# Altium footprint library TQFP.PcbLib: 51 footprints (part 1 of 4)
Each footprint in its own frame and in the unit in brackets; x right, y up, seen from the top. Pads: shape width x height; smd on the part's side, far side on the other; paste and mask are expansions set on the pad; w line width, h text height; cw(c..) or ccw(c..) is an arc to the next point about the centre after c.
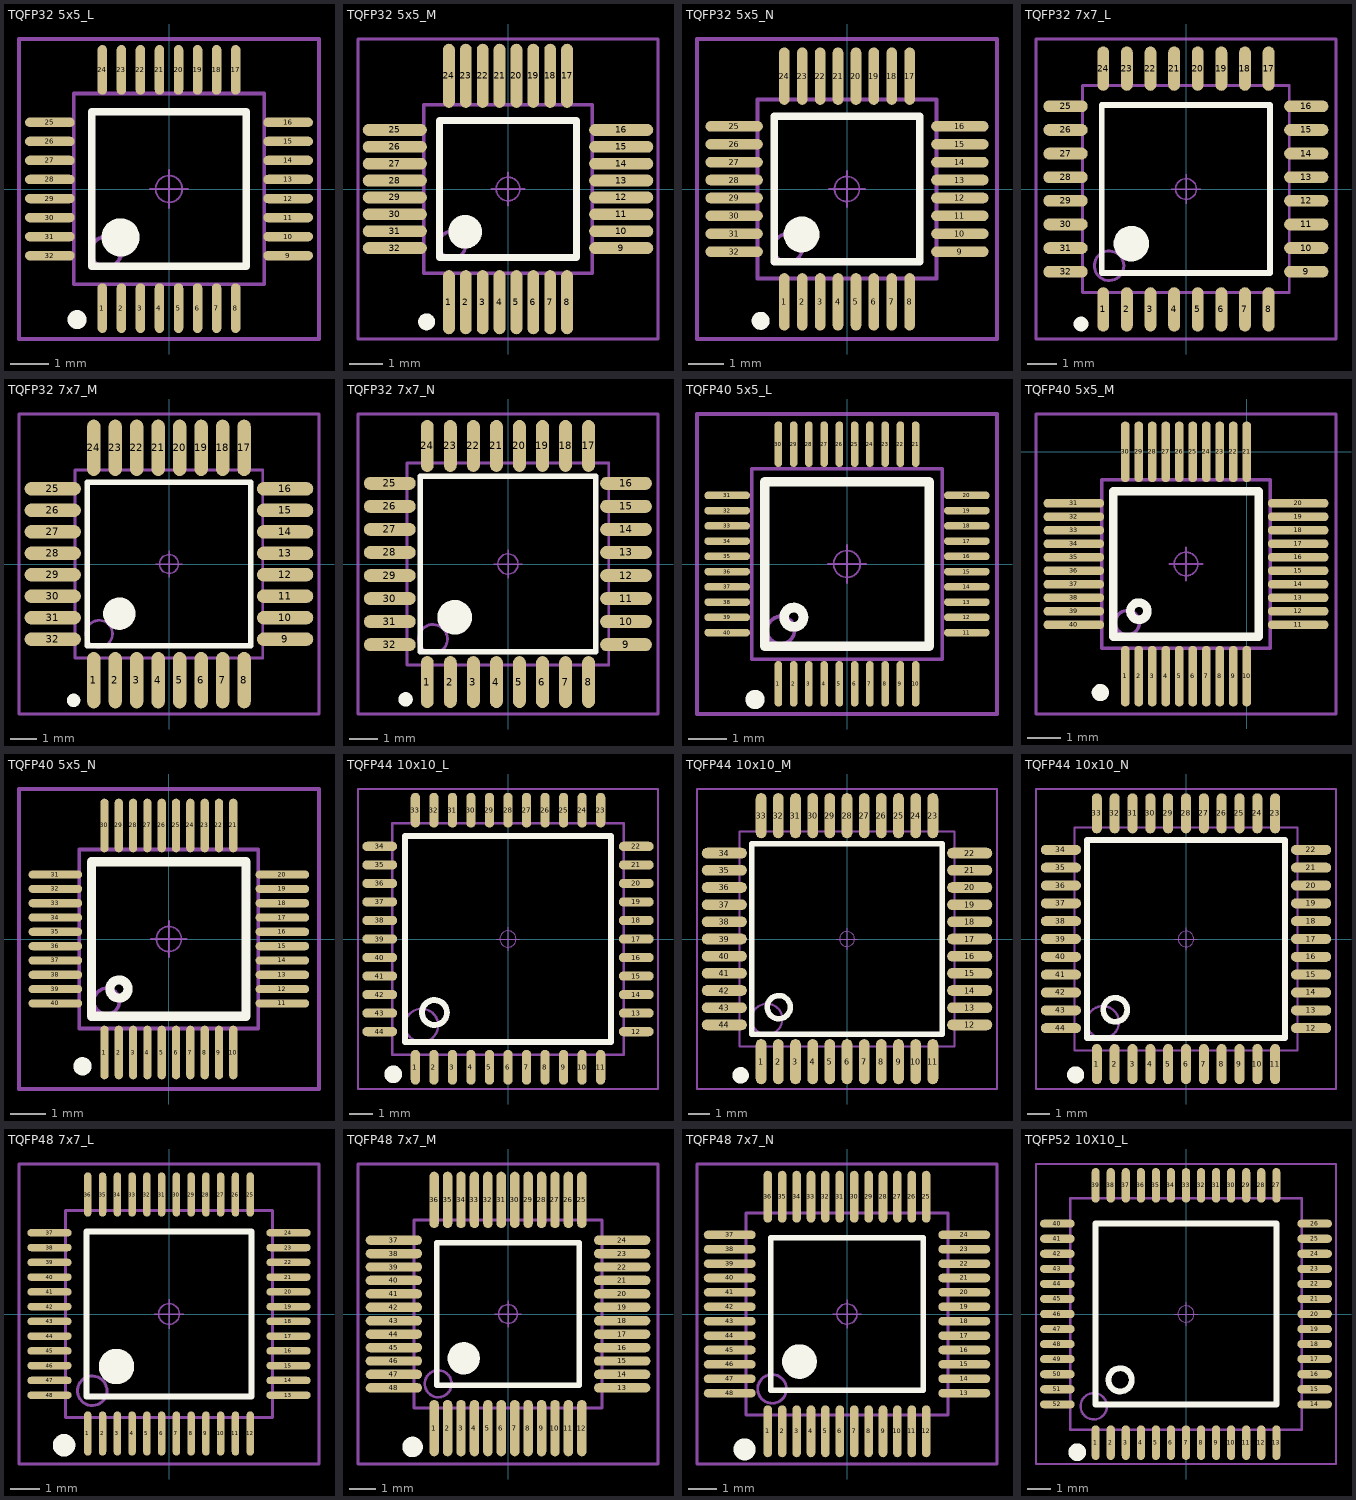
[diagram p0: the footprints below, top view; thin cyan lines are the x and y axes]

## TQFP32 5x5_L [mm] "32脚，体宽：5x5mm, 脚距：0.5mm"
height 1.2
pads (32):
  oval 0.25x1.3 smd: 1(-1.75,-3.127) 2(-1.25,-3.127) 3(-0.75,-3.127) 4(-0.25,-3.127) 5(0.25,-3.127) 6(0.75,-3.127) 7(1.25,-3.127) 8(1.75,-3.127) 17(1.75,3.127) 18(1.25,3.127) 19(0.75,3.127) 20(0.25,3.127) 21(-0.25,3.127) 22(-0.75,3.127) 23(-1.25,3.127) 24(-1.75,3.127)
  oval 1.3x0.25 smd: 9(3.127,-1.75) 10(3.127,-1.25) 11(3.127,-0.75) 12(3.127,-0.25) 13(3.127,0.25) 14(3.127,0.75) 15(3.127,1.25) 16(3.127,1.75) 25(-3.127,1.75) 26(-3.127,1.25) 27(-3.127,0.75) 28(-3.127,0.25) 29(-3.127,-0.25) 30(-3.127,-0.75) 31(-3.127,-1.25) 32(-3.127,-1.75)
Top Overlay:
  circle w0.6: c-1.27,-1.27 r0.2
  circle w0.25: c-2.413,-3.429 r0.125
  lines w0.2: -2.032,-2.032 -2.032,2.032 2.032,2.032 2.032,-2.032 -2.032,-2.032
Mechanical 13:
  circle w0.1: c-1.651,-1.651 r0.4
  lines w0.1: -2.5,-2.5 -2.5,2.503 2.5,2.503 2.5,-2.5 -2.5,-2.5
Mechanical 15:
  circle w0.05: c0,0 r0.35
  lines w0.05: -0.5,0 0.5,0 ; 0,-0.5 0,0.5
  lines w0.1: -3.937,-3.937 -3.937,3.937 3.937,3.937 3.937,-3.937 -3.937,-3.937
3D body: height 1.05, standoff 0, extent -3.502,-3.502 3.502,3.502

## TQFP32 5x5_M [mm] "32脚，体宽：5x5mm, 脚距：0.5mm"
height 1.2
pads (32):
  oval 0.35x1.9 smd: 1(-1.75,-3.356) 2(-1.25,-3.356) 3(-0.75,-3.356) 4(-0.25,-3.356) 5(0.25,-3.356) 6(0.75,-3.356) 7(1.25,-3.356) 8(1.75,-3.356) 17(1.75,3.356) 18(1.25,3.356) 19(0.75,3.356) 20(0.25,3.356) 21(-0.25,3.356) 22(-0.75,3.356) 23(-1.25,3.356) 24(-1.75,3.356)
  oval 1.9x0.35 smd: 9(3.356,-1.75) 10(3.356,-1.25) 11(3.356,-0.75) 12(3.356,-0.25) 13(3.356,0.25) 14(3.356,0.75) 15(3.356,1.25) 16(3.356,1.75) 25(-3.356,1.75) 26(-3.356,1.25) 27(-3.356,0.75) 28(-3.356,0.25) 29(-3.356,-0.25) 30(-3.356,-0.75) 31(-3.356,-1.25) 32(-3.356,-1.75)
Top Overlay:
  circle w0.25: c-2.413,-3.937 r0.125
  circle w0.6: c-1.27,-1.27 r0.2
  lines w0.2: -2.032,-2.032 2.032,-2.032 2.032,2.032 -2.032,2.032 -2.032,-2.032
Mechanical 13:
  circle w0.1: c-1.651,-1.651 r0.4
  lines w0.1: -2.5,-2.5 2.5,-2.5 2.5,2.5 -2.5,2.5 -2.5,-2.5
Mechanical 15:
  circle w0.05: c0,0 r0.35
  lines w0.05: -0.5,0 0.5,0 ; 0,-0.5 0,0.5
  lines w0.1: -4.445,-4.445 4.445,-4.445 4.445,4.445 -4.445,4.445 -4.445,-4.445
3D body: height 1.05, standoff 0, extent -3.499,-3.502 3.505,3.502

## TQFP32 5x5_N [mm] "32脚，体宽：5x5mm, 脚距：0.5mm"
height 1.2
pads (32):
  oval 0.3x1.6 smd: 1(-1.75,-3.152) 2(-1.25,-3.152) 3(-0.75,-3.152) 4(-0.25,-3.152) 5(0.25,-3.152) 6(0.75,-3.152) 7(1.25,-3.152) 8(1.75,-3.152) 17(1.75,3.152) 18(1.25,3.152) 19(0.75,3.152) 20(0.25,3.152) 21(-0.25,3.152) 22(-0.75,3.152) 23(-1.25,3.152) 24(-1.75,3.152)
  oval 1.6x0.3 smd: 9(3.152,-1.75) 10(3.152,-1.25) 11(3.152,-0.75) 12(3.152,-0.25) 13(3.152,0.25) 14(3.152,0.75) 15(3.152,1.25) 16(3.152,1.75) 25(-3.152,1.75) 26(-3.152,1.25) 27(-3.152,0.75) 28(-3.152,0.25) 29(-3.152,-0.25) 30(-3.152,-0.75) 31(-3.152,-1.25) 32(-3.152,-1.75)
Top Overlay:
  circle w0.25: c-2.413,-3.683 r0.125
  circle w0.6: c-1.27,-1.27 r0.2
  lines w0.2: -2.032,-2.032 2.032,-2.032 2.032,2.032 -2.032,2.032 -2.032,-2.032
Mechanical 13:
  circle w0.1: c-1.651,-1.651 r0.4
  lines w0.1: -2.5,-2.5 2.5,-2.5 2.5,2.5 -2.5,2.5 -2.5,-2.5
Mechanical 15:
  circle w0.05: c0,0 r0.35
  lines w0.05: -0.5,0 0.5,0 ; 0,-0.5 0,0.5
  lines w0.1: -4.191,-4.191 4.191,-4.191 4.191,4.191 -4.191,4.191 -4.191,-4.191
3D body: height 1.05, standoff 0, extent -3.499,-3.502 3.505,3.502

## TQFP32 7x7_L [mm] "32脚，体宽：7x7mm, 脚距：0.8mm"
height 1.2
pads (32):
  oval 0.4x1.5 smd: 1(-2.803,-4.076) 2(-2.003,-4.076) 3(-1.203,-4.076) 4(-0.403,-4.076) 5(0.397,-4.076) 6(1.197,-4.076) 7(1.997,-4.076) 8(2.797,-4.076) 17(2.797,4.076) 18(1.997,4.076) 19(1.197,4.076) 20(0.397,4.076) 21(-0.403,4.076) 22(-1.203,4.076) 23(-2.003,4.076) 24(-2.803,4.076)
  oval 1.5x0.4 smd: 9(4.074,-2.8) 10(4.074,-2) 11(4.074,-1.2) 12(4.074,-0.4) 13(4.074,0.4) 14(4.074,1.2) 15(4.074,2) 16(4.074,2.8) 25(-4.079,2.8) 26(-4.079,2) 27(-4.079,1.2) 28(-4.079,0.4) 29(-4.079,-0.4) 30(-4.079,-1.2) 31(-4.079,-2) 32(-4.079,-2.8)
Top Overlay:
  circle w0.25: c-3.556,-4.572 r0.125
  circle w0.6: c-1.853,-1.85 r0.3
  lines w0.2: -2.853,-2.85 2.847,-2.85 2.847,2.85 -2.853,2.85 -2.853,-2.85
Mechanical 13:
  circle w0.1: c-2.603,-2.6 r0.5
  lines w0.1: -3.503,-3.5 3.497,-3.5 3.497,3.5 -3.503,3.5 -3.503,-3.5
Mechanical 15:
  circle w0.05: c0,0 r0.35
  lines w0.05: -0.5,0 0.5,0 ; 0,-0.5 0,0.5
  lines w0.1: -5.08,-5.08 5.08,-5.08 5.08,5.08 -5.08,5.08 -5.08,-5.08
3D body: height 1.05, standoff 0, extent -4.505,-4.502 4.499,4.502

## TQFP32 7x7_M [mm] "32脚，体宽：7x7mm, 脚距：0.8mm"
height 1.2
pads (32):
  oval 0.5x2.1 smd: 1(-2.803,-4.327) 2(-2.003,-4.327) 3(-1.203,-4.327) 4(-0.403,-4.327) 5(0.397,-4.327) 6(1.197,-4.327) 7(1.997,-4.327) 8(2.797,-4.327) 17(2.797,4.327) 18(1.997,4.327) 19(1.197,4.327) 20(0.397,4.327) 21(-0.403,4.327) 22(-1.203,4.327) 23(-2.003,4.327) 24(-2.803,4.327)
  oval 2.1x0.5 smd: 9(4.324,-2.8) 10(4.324,-2) 11(4.324,-1.2) 12(4.324,-0.4) 13(4.324,0.4) 14(4.324,1.2) 15(4.324,2) 16(4.324,2.8) 25(-4.33,2.8) 26(-4.33,2) 27(-4.33,1.2) 28(-4.33,0.4) 29(-4.33,-0.4) 30(-4.33,-1.2) 31(-4.33,-2) 32(-4.33,-2.8)
Top Overlay:
  circle w0.25: c-3.556,-5.08 r0.125
  circle w0.6: c-1.853,-1.85 r0.3
  lines w0.2: -3.048,-3.048 3.048,-3.048 3.048,3.048 -3.048,3.048 -3.048,-3.048
Mechanical 13:
  circle w0.1: c-2.603,-2.6 r0.5
  lines w0.1: -3.503,-3.5 3.497,-3.5 3.497,3.5 -3.503,3.5 -3.503,-3.5
Mechanical 15:
  circle w0.05: c0,0 r0.35
  lines w0.05: -0.5,0 0.5,0 ; 0,-0.5 0,0.5
  lines w0.1: -5.588,-5.588 5.588,-5.588 5.588,5.588 -5.588,5.588 -5.588,-5.588
3D body: height 1.05, standoff 0, extent -4.505,-4.502 4.499,4.502

## TQFP32 7x7_N [mm] "32脚，体宽：7x7mm, 脚距：0.8mm"
height 1.2
pads (32):
  oval 0.45x1.8 smd: 1(-2.803,-4.1) 2(-2.003,-4.1) 3(-1.203,-4.1) 4(-0.403,-4.1) 5(0.397,-4.1) 6(1.197,-4.1) 7(1.997,-4.1) 8(2.797,-4.1) 17(2.797,4.1) 18(1.997,4.1) 19(1.197,4.1) 20(0.397,4.1) 21(-0.403,4.1) 22(-1.203,4.1) 23(-2.003,4.1) 24(-2.803,4.1)
  oval 1.8x0.45 smd: 9(4.097,-2.8) 10(4.097,-2) 11(4.097,-1.2) 12(4.097,-0.4) 13(4.097,0.4) 14(4.097,1.2) 15(4.097,2) 16(4.097,2.8) 25(-4.103,2.8) 26(-4.103,2) 27(-4.103,1.2) 28(-4.103,0.4) 29(-4.103,-0.4) 30(-4.103,-1.2) 31(-4.103,-2) 32(-4.103,-2.8)
Top Overlay:
  circle w0.25: c-3.556,-4.699 r0.125
  circle w0.6: c-1.853,-1.85 r0.3
  lines w0.2: -3.048,-3.048 3.048,-3.048 3.048,3.048 -3.048,3.048 -3.048,-3.048
Mechanical 13:
  circle w0.1: c-2.603,-2.6 r0.5
  lines w0.1: -3.503,-3.5 3.497,-3.5 3.497,3.5 -3.503,3.5 -3.503,-3.5
Mechanical 15:
  circle w0.05: c0,0 r0.35
  lines w0.05: -0.5,0 0.5,0 ; 0,-0.5 0,0.5
  lines w0.1: -5.207,-5.207 5.207,-5.207 5.207,5.207 -5.207,5.207 -5.207,-5.207
3D body: height 1.05, standoff 0, extent -4.505,-4.502 4.499,4.502

## TQFP40 5x5_L [mm] "40脚，体宽：5x5mm, 脚距：0.4mm"
pads (40):
  oval 0.2x1.2 smd: 1(-1.8,-3.146) 2(-1.4,-3.146) 3(-1,-3.146) 4(-0.6,-3.146) 5(-0.2,-3.146) 6(0.2,-3.146) 7(0.6,-3.146) 8(1,-3.146) 9(1.4,-3.146) 10(1.8,-3.146) 21(1.8,3.146) 22(1.4,3.146) 23(1,3.146) 24(0.6,3.146) 25(0.2,3.146) 26(-0.2,3.146) 27(-0.6,3.146) 28(-1,3.146) 29(-1.4,3.146) 30(-1.8,3.146)
  oval 1.2x0.2 smd: 11(3.146,-1.8) 12(3.146,-1.4) 13(3.146,-1) 14(3.146,-0.6) 15(3.146,-0.2) 16(3.146,0.2) 17(3.146,0.6) 18(3.146,1) 19(3.146,1.4) 20(3.146,1.8) 31(-3.146,1.8) 32(-3.146,1.4) 33(-3.146,1) 34(-3.146,0.6) 35(-3.146,0.2) 36(-3.146,-0.2) 37(-3.146,-0.6) 38(-3.146,-1) 39(-3.146,-1.4) 40(-3.146,-1.8)
Top Overlay:
  circle w0.254: c-1.397,-1.397 r0.254
  circle w0.254: c-2.413,-3.556 r0.127
  lines w0.254: -2.159,-2.159 -2.159,2.159 2.159,2.159 2.159,-2.159 -2.159,-2.159
Mechanical 13:
  circle w0.1: c-1.738,-1.738 r0.359
  lines w0.1: -2.5,-2.5 -2.5,2.5 2.5,2.5 2.5,-2.5 -2.5,-2.5
Mechanical 15:
  circle w0.05: c0,0 r0.35
  lines w0.05: -0.5,0 0.5,0 ; 0,-0.5 0,0.5
  lines w0.1: -3.937,-3.937 -3.937,3.937 3.937,3.937 3.937,-3.937 -3.937,-3.937
3D body: height 1.05, standoff 0, extent -3.502,-3.502 3.502,3.502

## TQFP40 5x5_M [mm] "40脚，体宽：5x5mm, 脚距：0.4mm"
pads (40):
  oval 0.26x1.8 smd: 1(-3.6,-6.648) 2(-3.2,-6.648) 3(-2.8,-6.648) 4(-2.4,-6.648) 5(-2,-6.648) 6(-1.6,-6.648) 7(-1.2,-6.648) 8(-0.8,-6.648) 9(-0.4,-6.648) 10(0,-6.648) 21(0,0) 22(-0.4,0) 23(-0.8,0) 24(-1.2,0) 25(-1.6,0) 26(-2,0) 27(-2.4,0) 28(-2.8,0) 29(-3.2,0) 30(-3.6,0)
  oval 1.8x0.26 smd: 11(1.524,-5.124) 12(1.524,-4.724) 13(1.524,-4.324) 14(1.524,-3.924) 15(1.524,-3.524) 16(1.524,-3.124) 17(1.524,-2.724) 18(1.524,-2.324) 19(1.524,-1.924) 20(1.524,-1.524) 31(-5.124,-1.524) 32(-5.124,-1.924) 33(-5.124,-2.324) 34(-5.124,-2.724) 35(-5.124,-3.124) 36(-5.124,-3.524) 37(-5.124,-3.924) 38(-5.124,-4.324) 39(-5.124,-4.724) 40(-5.124,-5.124)
Top Overlay:
  circle w0.254: c-4.34,-7.134 r0.127
  circle w0.254: c-3.197,-4.721 r0.254
  lines w0.254: -3.959,-5.483 0.359,-5.483 0.359,-1.165 -3.959,-1.165 -3.959,-5.483
Mechanical 13:
  circle w0.1: c-3.538,-5.062 r0.359
  lines w0.1: -4.3,-5.824 0.7,-5.824 0.7,-0.824 -4.3,-0.824 -4.3,-5.824
Mechanical 15:
  circle w0.05: c-1.8,-3.324 r0.35
  lines w0.05: -2.3,-3.324 -1.3,-3.324 ; -1.8,-3.824 -1.8,-2.824
  lines w0.1: -6.245,-7.769 2.645,-7.769 2.645,1.121 -6.245,1.121 -6.245,-7.769
3D body: height 1.05, standoff 0, extent -5.302,-6.826 1.702,0.178

## TQFP40 5x5_N [mm] "40脚，体宽：5x5mm, 脚距：0.4mm"
pads (40):
  oval 0.23x1.5 smd: 1(-1.8,-3.171) 2(-1.4,-3.171) 3(-1,-3.171) 4(-0.6,-3.171) 5(-0.2,-3.171) 6(0.2,-3.171) 7(0.6,-3.171) 8(1,-3.171) 9(1.4,-3.171) 10(1.8,-3.171) 21(1.8,3.171) 22(1.4,3.171) 23(1,3.171) 24(0.6,3.171) 25(0.2,3.171) 26(-0.2,3.171) 27(-0.6,3.171) 28(-1,3.171) 29(-1.4,3.171) 30(-1.8,3.171)
  oval 1.5x0.23 smd: 11(3.171,-1.8) 12(3.171,-1.4) 13(3.171,-1) 14(3.171,-0.6) 15(3.171,-0.2) 16(3.171,0.2) 17(3.171,0.6) 18(3.171,1) 19(3.171,1.4) 20(3.171,1.8) 31(-3.171,1.8) 32(-3.171,1.4) 33(-3.171,1) 34(-3.171,0.6) 35(-3.171,0.2) 36(-3.171,-0.2) 37(-3.171,-0.6) 38(-3.171,-1) 39(-3.171,-1.4) 40(-3.171,-1.8)
Top Overlay:
  circle w0.254: c-1.397,-1.397 r0.254
  circle w0.254: c-2.413,-3.556 r0.127
  lines w0.254: -2.159,-2.159 -2.159,2.159 2.159,2.159 2.159,-2.159 -2.159,-2.159
Mechanical 13:
  circle w0.1: c-1.738,-1.738 r0.359
  lines w0.1: -2.5,-2.5 -2.5,2.5 2.5,2.5 2.5,-2.5 -2.5,-2.5
Mechanical 15:
  circle w0.05: c0,0 r0.35
  lines w0.05: -0.5,0 0.5,0 ; 0,-0.5 0,0.5
  lines w0.1: -4.188,-4.191 -4.188,4.191 4.194,4.191 4.194,-4.191 -4.188,-4.191
3D body: height 1.05, standoff 0, extent -3.502,-3.502 3.502,3.502

## TQFP44 10x10_L [mm] "44脚，体宽：10x10mm, 脚距：0.8mm"
pads (44):
  oval 0.4x1.5 smd: 1(-4,-5.537) 2(-3.2,-5.537) 3(-2.4,-5.537) 4(-1.6,-5.537) 5(-0.8,-5.537) 6(0,-5.537) 7(0.8,-5.537) 8(1.6,-5.537) 9(2.4,-5.537) 10(3.2,-5.537) 11(4,-5.537) 23(4,5.563) 24(3.2,5.563) 25(2.4,5.563) 26(1.6,5.563) 27(0.8,5.563) 28(0,5.563) 29(-0.8,5.563) 30(-1.6,5.563) 31(-2.4,5.563) 32(-3.2,5.563) 33(-4,5.563)
  oval 1.5x0.4 smd: 12(5.537,-4) 13(5.537,-3.2) 14(5.537,-2.4) 15(5.537,-1.6) 16(5.537,-0.8) 17(5.537,0) 18(5.537,0.8) 19(5.537,1.6) 20(5.537,2.4) 21(5.537,3.2) 22(5.537,4) 34(-5.537,4) 35(-5.537,3.2) 36(-5.537,2.4) 37(-5.537,1.6) 38(-5.537,0.8) 39(-5.537,0) 40(-5.537,-0.8) 41(-5.537,-1.6) 42(-5.537,-2.4) 43(-5.537,-3.2) 44(-5.537,-4)
Top Overlay:
  circle w0.508: c-4.953,-5.842 r0.127
  circle w0.254: c-3.175,-3.175 r0.539
  lines w0.254: -4.445,-4.445 4.445,-4.445 4.445,4.445 -4.445,4.445 -4.445,-4.445
Mechanical 13:
  circle w0.1: c-3.73,-3.73 r0.718
  lines w0.1: -5,-5 5,-5 5,5 -5,5 -5,-5
Mechanical 15:
  circle w0.05: c0,0 r0.35
  lines w0.05: -0.5,0 0.5,0 ; 0,-0.5 0,0.5
  lines w0.1: -6.477,-6.477 6.477,-6.477 6.477,6.477 -6.477,6.477 -6.477,-6.477
3D body: height 1.05, standoff -0.01, extent -6.002,-6.002 6.002,6.002

## TQFP44 10x10_M [mm] "44脚，体宽：10x10mm, 脚距：0.8mm"
pads (44):
  oval 0.5x2.1 smd: 1(-4,-5.715) 2(-3.2,-5.715) 3(-2.4,-5.715) 4(-1.6,-5.715) 5(-0.8,-5.715) 6(0,-5.715) 7(0.8,-5.715) 8(1.6,-5.715) 9(2.4,-5.715) 10(3.2,-5.715) 11(4,-5.715) 23(4,5.74) 24(3.2,5.74) 25(2.4,5.74) 26(1.6,5.74) 27(0.8,5.74) 28(0,5.74) 29(-0.8,5.74) 30(-1.6,5.74) 31(-2.4,5.74) 32(-3.2,5.74) 33(-4,5.74)
  oval 2.1x0.5 smd: 12(5.715,-4) 13(5.715,-3.2) 14(5.715,-2.4) 15(5.715,-1.6) 16(5.715,-0.8) 17(5.715,0) 18(5.715,0.8) 19(5.715,1.6) 20(5.715,2.4) 21(5.715,3.2) 22(5.715,4) 34(-5.715,4) 35(-5.715,3.2) 36(-5.715,2.4) 37(-5.715,1.6) 38(-5.715,0.8) 39(-5.715,0) 40(-5.715,-0.8) 41(-5.715,-1.6) 42(-5.715,-2.4) 43(-5.715,-3.2) 44(-5.715,-4)
Top Overlay:
  circle w0.254: c-3.175,-3.175 r0.539
  circle w0.508: c-4.953,-6.35 r0.127
  lines w0.254: -4.445,-4.445 4.445,-4.445 4.445,4.445 -4.445,4.445 -4.445,-4.445
Mechanical 13:
  circle w0.1: c-3.73,-3.73 r0.718
  lines w0.1: -5,-5 5,-5 5,5 -5,5 -5,-5
Mechanical 15:
  circle w0.05: c0,0 r0.35
  lines w0.05: -0.5,0 0.5,0 ; 0,-0.5 0,0.5
  lines w0.1: -6.985,-6.985 6.985,-6.985 6.985,6.985 -6.985,6.985 -6.985,-6.985
3D body: height 1.05, standoff -0.01, extent -6.002,-6.002 6.002,6.002

## TQFP44 10x10_N [mm] "44脚，体宽：10x10mm, 脚距：0.8mm"
pads (44):
  oval 0.45x1.8 smd: 1(-4,-5.613) 2(-3.2,-5.613) 3(-2.4,-5.613) 4(-1.6,-5.613) 5(-0.8,-5.613) 6(0,-5.613) 7(0.8,-5.613) 8(1.6,-5.613) 9(2.4,-5.613) 10(3.2,-5.613) 11(4,-5.613) 23(4,5.639) 24(3.2,5.639) 25(2.4,5.639) 26(1.6,5.639) 27(0.8,5.639) 28(0,5.639) 29(-0.8,5.639) 30(-1.6,5.639) 31(-2.4,5.639) 32(-3.2,5.639) 33(-4,5.639)
  oval 1.8x0.45 smd: 12(5.613,-4) 13(5.613,-3.2) 14(5.613,-2.4) 15(5.613,-1.6) 16(5.613,-0.8) 17(5.613,0) 18(5.613,0.8) 19(5.613,1.6) 20(5.613,2.4) 21(5.613,3.2) 22(5.613,4) 34(-5.613,4) 35(-5.613,3.2) 36(-5.613,2.4) 37(-5.613,1.6) 38(-5.613,0.8) 39(-5.613,0) 40(-5.613,-0.8) 41(-5.613,-1.6) 42(-5.613,-2.4) 43(-5.613,-3.2) 44(-5.613,-4)
Top Overlay:
  circle w0.254: c-3.175,-3.175 r0.539
  circle w0.508: c-4.953,-6.096 r0.127
  lines w0.254: -4.445,-4.445 4.445,-4.445 4.445,4.445 -4.445,4.445 -4.445,-4.445
Mechanical 13:
  circle w0.1: c-3.73,-3.73 r0.718
  lines w0.1: -5,-5 5,-5 5,5 -5,5 -5,-5
Mechanical 15:
  circle w0.05: c0,0 r0.35
  lines w0.05: -0.5,0 0.5,0 ; 0,-0.5 0,0.5
  lines w0.1: -6.731,-6.731 6.731,-6.731 6.731,6.731 -6.731,6.731 -6.731,-6.731
3D body: height 1.05, standoff -0.01, extent -6.002,-6.002 6.002,6.002

## TQFP48 7x7_L [mm] "48脚，体宽：7x7mm, 脚距：0.5mm"
height 1.6
pads (48):
  oval 0.25x1.5 smd: 1(-2.75,-4.046) 2(-2.25,-4.046) 3(-1.75,-4.046) 4(-1.25,-4.046) 5(-0.75,-4.046) 6(-0.25,-4.046) 7(0.25,-4.046) 8(0.75,-4.046) 9(1.25,-4.046) 10(1.75,-4.046) 11(2.25,-4.046) 12(2.75,-4.046) 25(2.75,4.046) 26(2.25,4.046) 27(1.75,4.046) 28(1.25,4.046) 29(0.75,4.046) 30(0.25,4.046) 31(-0.25,4.046) 32(-0.75,4.046) 33(-1.25,4.046) 34(-1.75,4.046) 35(-2.25,4.046) 36(-2.75,4.046)
  oval 1.5x0.25 smd: 13(4.046,-2.75) 14(4.046,-2.25) 15(4.046,-1.75) 16(4.046,-1.25) 17(4.046,-0.75) 18(4.046,-0.25) 19(4.046,0.25) 20(4.046,0.75) 21(4.046,1.25) 22(4.046,1.75) 23(4.046,2.25) 24(4.046,2.75) 37(-4.046,2.75) 38(-4.046,2.25) 39(-4.046,1.75) 40(-4.046,1.25) 41(-4.046,0.75) 42(-4.046,0.25) 43(-4.046,-0.25) 44(-4.046,-0.75) 45(-4.046,-1.25) 46(-4.046,-1.75) 47(-4.046,-2.25) 48(-4.046,-2.75)
Top Overlay:
  circle w0.6: c-1.778,-1.778 r0.3
  circle w0.508: c-3.556,-4.445 r0.127
  lines w0.2: -2.794,-2.794 2.794,-2.794 2.794,2.794 -2.794,2.794 -2.794,-2.794
Mechanical 13:
  circle w0.1: c-2.6,-2.6 r0.5
  lines w0.1: -3.5,-3.5 3.5,-3.5 3.5,3.5 -3.5,3.5 -3.5,-3.5
Mechanical 15:
  circle w0.05: c0,0 r0.35
  lines w0.05: -0.5,0 0.5,0 ; 0,-0.5 0,0.5
  lines w0.1: -5.08,-5.08 5.08,-5.08 5.08,5.08 -5.08,5.08 -5.08,-5.08
3D body: height 1.05, standoff 0, extent -4.502,-4.502 4.502,4.502

## TQFP48 7x7_M [mm] "48脚，体宽：7x7mm, 脚距：0.5mm"
height 1.6
pads (48):
  oval 0.35x2.1 smd: 1(-2.75,-4.251) 2(-2.25,-4.251) 3(-1.75,-4.251) 4(-1.25,-4.251) 5(-0.75,-4.251) 6(-0.25,-4.251) 7(0.25,-4.251) 8(0.75,-4.251) 9(1.25,-4.251) 10(1.75,-4.251) 11(2.25,-4.251) 12(2.75,-4.251) 25(2.75,4.251) 26(2.25,4.251) 27(1.75,4.251) 28(1.25,4.251) 29(0.75,4.251) 30(0.25,4.251) 31(-0.25,4.251) 32(-0.75,4.251) 33(-1.25,4.251) 34(-1.75,4.251) 35(-2.25,4.251) 36(-2.75,4.251)
  oval 2.1x0.35 smd: 13(4.251,-2.75) 14(4.251,-2.25) 15(4.251,-1.75) 16(4.251,-1.25) 17(4.251,-0.75) 18(4.251,-0.25) 19(4.251,0.25) 20(4.251,0.75) 21(4.251,1.25) 22(4.251,1.75) 23(4.251,2.25) 24(4.251,2.75) 37(-4.251,2.75) 38(-4.251,2.25) 39(-4.251,1.75) 40(-4.251,1.25) 41(-4.251,0.75) 42(-4.251,0.25) 43(-4.251,-0.25) 44(-4.251,-0.75) 45(-4.251,-1.25) 46(-4.251,-1.75) 47(-4.251,-2.25) 48(-4.251,-2.75)
Top Overlay:
  circle w0.6: c-1.65,-1.65 r0.3
  circle w0.508: c-3.556,-4.953 r0.127
  lines w0.2: -2.65,-2.65 -2.65,2.65 2.65,2.65 2.65,-2.65 -2.65,-2.65
Mechanical 13:
  circle w0.1: c-2.6,-2.6 r0.5
  lines w0.1: -3.5,-3.5 -3.5,3.5 3.5,3.5 3.5,-3.5 -3.5,-3.5
Mechanical 15:
  circle w0.05: c0,0 r0.35
  lines w0.05: -0.5,0 0.5,0 ; 0,-0.5 0,0.5
  lines w0.1: -5.588,-5.588 -5.588,5.588 5.588,5.588 5.588,-5.588 -5.588,-5.588
3D body: height 1.05, standoff 0, extent -4.502,-4.502 4.502,4.502

## TQFP48 7x7_N [mm] "48脚，体宽：7x7mm, 脚距：0.5mm"
height 1.6
pads (48):
  oval 0.3x1.8 smd: 1(-2.75,-4.073) 2(-2.25,-4.073) 3(-1.75,-4.073) 4(-1.25,-4.073) 5(-0.75,-4.073) 6(-0.25,-4.073) 7(0.25,-4.073) 8(0.75,-4.073) 9(1.25,-4.073) 10(1.75,-4.073) 11(2.25,-4.073) 12(2.75,-4.073) 25(2.75,4.073) 26(2.25,4.073) 27(1.75,4.073) 28(1.25,4.073) 29(0.75,4.073) 30(0.25,4.073) 31(-0.25,4.073) 32(-0.75,4.073) 33(-1.25,4.073) 34(-1.75,4.073) 35(-2.25,4.073) 36(-2.75,4.073)
  oval 1.8x0.3 smd: 13(4.073,-2.75) 14(4.073,-2.25) 15(4.073,-1.75) 16(4.073,-1.25) 17(4.073,-0.75) 18(4.073,-0.25) 19(4.073,0.25) 20(4.073,0.75) 21(4.073,1.25) 22(4.073,1.75) 23(4.073,2.25) 24(4.073,2.75) 37(-4.073,2.75) 38(-4.073,2.25) 39(-4.073,1.75) 40(-4.073,1.25) 41(-4.073,0.75) 42(-4.073,0.25) 43(-4.073,-0.25) 44(-4.073,-0.75) 45(-4.073,-1.25) 46(-4.073,-1.75) 47(-4.073,-2.25) 48(-4.073,-2.75)
Top Overlay:
  circle w0.508: c-3.556,-4.699 r0.127
  circle w0.6: c-1.65,-1.65 r0.3
  lines w0.2: -2.65,-2.65 -2.65,2.65 2.65,2.65 2.65,-2.65 -2.65,-2.65
Mechanical 13:
  circle w0.1: c-2.6,-2.6 r0.5
  lines w0.1: -3.5,-3.5 -3.5,3.5 3.5,3.5 3.5,-3.5 -3.5,-3.5
Mechanical 15:
  circle w0.05: c0,0 r0.35
  lines w0.05: -0.5,0 0.5,0 ; 0,-0.5 0,0.5
  lines w0.1: -5.207,-5.207 -5.207,5.207 5.207,5.207 5.207,-5.207 -5.207,-5.207
3D body: height 1.05, standoff 0, extent -4.502,-4.502 4.502,4.502

## TQFP52 10X10_L [mm] "52脚，体宽：10x10mm, 脚距：0.65mm"
pads (52):
  oval 0.35x1.5 smd: 1(-3.9,-5.556) 2(-3.25,-5.556) 3(-2.6,-5.556) 4(-1.95,-5.556) 5(-1.3,-5.556) 6(-0.65,-5.556) 7(0,-5.556) 8(0.65,-5.556) 9(1.3,-5.556) 10(1.95,-5.556) 11(2.6,-5.556) 12(3.25,-5.556) 13(3.9,-5.556) 27(3.9,5.556) 28(3.25,5.556) 29(2.6,5.556) 30(1.95,5.556) 31(1.3,5.556) 32(0.65,5.556) 33(0,5.556) 34(-0.65,5.556) 35(-1.3,5.556) 36(-1.95,5.556) 37(-2.6,5.556) 38(-3.25,5.556) 39(-3.9,5.556)
  oval 1.5x0.35 smd: 14(5.556,-3.9) 15(5.556,-3.25) 16(5.556,-2.6) 17(5.556,-1.95) 18(5.556,-1.3) 19(5.556,-0.65) 20(5.556,0) 21(5.556,0.65) 22(5.556,1.3) 23(5.556,1.95) 24(5.556,2.6) 25(5.556,3.25) 26(5.556,3.9) 40(-5.556,3.9) 41(-5.556,3.25) 42(-5.556,2.6) 43(-5.556,1.95) 44(-5.556,1.3) 45(-5.556,0.65) 46(-5.556,0) 47(-5.556,-0.65) 48(-5.556,-1.3) 49(-5.556,-1.95) 50(-5.556,-2.6) 51(-5.556,-3.25) 52(-5.556,-3.9)
Top Overlay:
  circle w0.254: c-2.845,-2.845 r0.503
  circle w0.508: c-4.699,-5.969 r0.127
  lines w0.254: -3.912,-3.912 -3.912,3.912 3.912,3.912 3.912,-3.912 -3.912,-3.912
Mechanical 13:
  circle w0.1: c-3.984,-3.984 r0.568
  lines w0.1: -5,-5 5,-5 5,5 -5,5 -5,-5
Mechanical 15:
  circle w0.05: c0,0 r0.35
  lines w0.05: -0.5,0 0.5,0 ; 0,-0.5 0,0.5
  lines w0.1: -6.477,-6.477 -6.477,6.477 6.477,6.477 6.477,-6.477 -6.477,-6.477
3D body: height 1.05, standoff -0.01, extent -6.002,-6.002 6.002,6.002